# EAGLE library part LCD_NMTC-S0802XRYHS-13 (library lib)
LCD NMTC-S0802XRYHS-13 LCD Character Display Modules & Accessories Yl/Grn Reflective
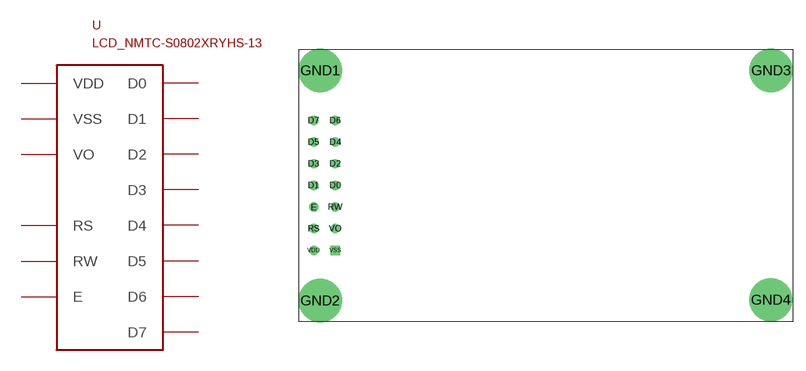
[diagram p3: symbol with the pads of LCD_NMTC-S0802XRYHS-13; footprint LCD_NMTC-S0802XRYHS-13]

Designator prefix -

## LCD_NMTC-S0802XRYHS-13 (LINK: https://eu.mouser.com/ProductDetail/Microtips-Technology/NMTC-S0802XRYHS-13?qs=55YtniHzbhBZws%2Fdg2%2FyAA%3D%3D; MPN: NMTC-S0802XRYHS-13; SUPPLIER: Mouser)  [LCD_NMTC-S0802XRYHS-13]
D0  D0
D1  D1
D2  D2
D3  D3
D4  D4
D5  D5
D6  D6
D7  D7
E  E
GND1  VSS  pwr
GND2  VSS  pwr
GND3  VSS  pwr
GND4  VSS  pwr
RS  RS
RW  RW
VDD  VDD  pwr
VO  VO  pwr
VSS  VSS  pwr

## Footprint LCD_NMTC-S0802XRYHS-13 (pad centres in mm)
drill 0.6: D0 2.541,-7.635; D1 0.001,-7.635; D2 2.541,-5.095; D3 0.001,-5.095; D4 2.541,-2.555; D5 0.001,-2.555; D6 2.541,-0.015; D7 0.001,-0.015; E 0.001,-10.175; RS 0.001,-12.715; RW 2.541,-10.175; VDD 0.001,-15.255; VO 2.541,-12.715
drill 2.54 pad 5.08: GND1 0.771,5.865; GND2 0.771,-21.155; GND3 53.741,5.865; GND4 53.711,-21.065
drill 0.6 square: VSS 2.541,-15.255